# Altium integrated library Integrated_Library1.IntLib: 17 symbols
Pins are listed as number, name and electrical type; pins without a type are passive.

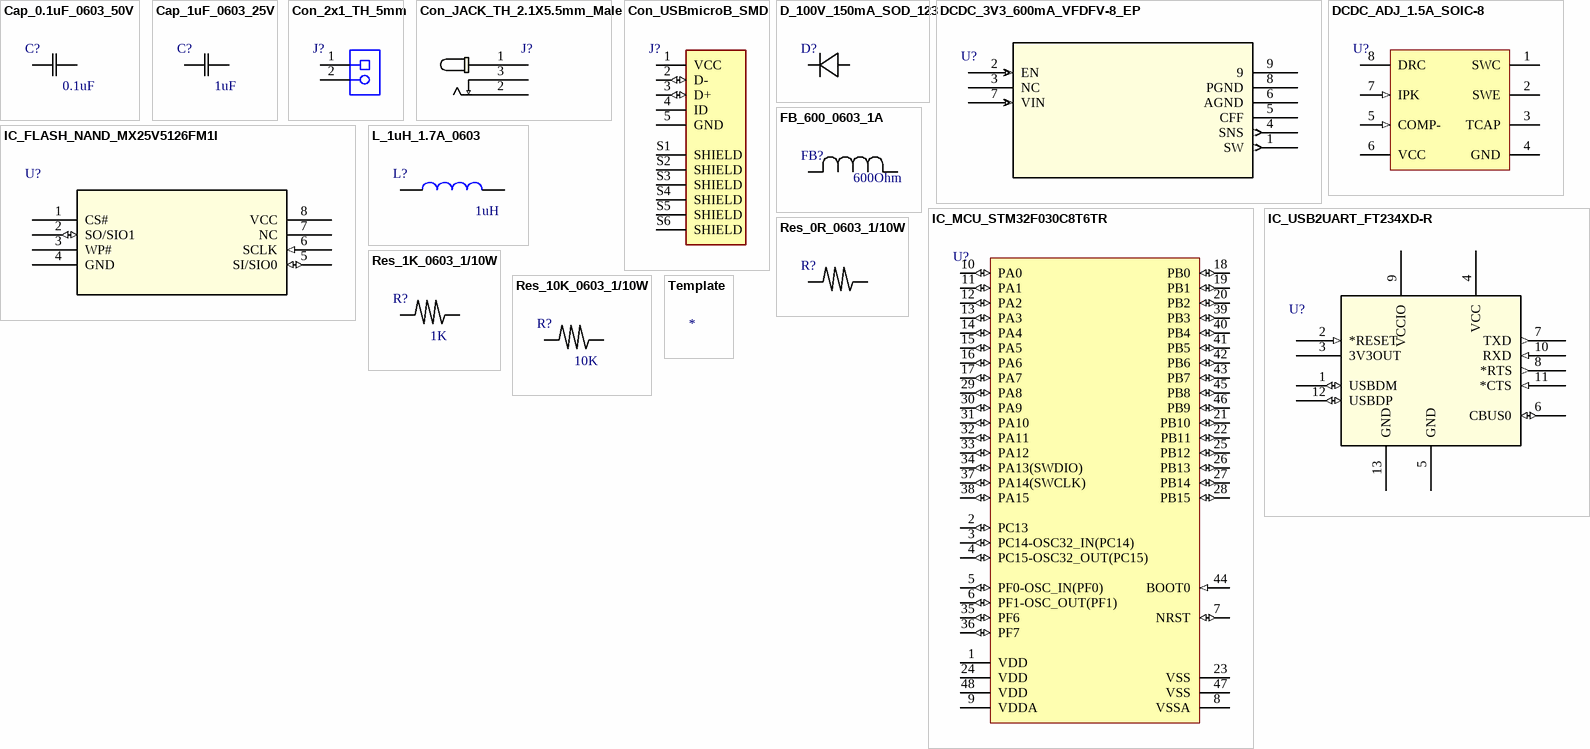
[diagram p0: symbols Cap_0.1uF_0603_50V to Template]

## Cap_0.1uF_0603_50V
designator C?, comment value 0.1uF  (hidden comment: CL10B104KB8NNNC)
CAP CER 0.1UF 50V X7R 0603; Manufacturer: Samsung Electro-Mechanics; Manufacturer Part Number: CL10B104KB8NNNC; Supplier 1: Digi-Key; Supplier Part Number 1: 1276-1000-1-ND; ComponentLink1Description: Digi-Key; ComponentLink1URL: https://www.digikey.com/en/products/detail/samsung-electro-mechanics/CL10B104KB8NNNC/3886658
footprint 0603_manual (1608 (metric) / 20231125 / Gustavo_Pisso)
pins: 1, 2

## Cap_1uF_0603_25V
designator C?, comment value 1uF  (hidden comment: CL10A105KA8NNNC)
1 µF ±10% 25V Ceramic Capacitor X5R 0603 (1608 Metric); Manufacturer: Samsung Electro-Mechanics; Manufacturer Part Number: CL10A105KA8NNNC; Supplier 1: Digi-Key; Supplier Part Number 1: 1276-1102-1-ND; ComponentLink1Description: Digi-Key; ComponentLink1URL: https://www.digikey.com/en/products/detail/samsung-electro-mechanics/CL10A105KA8NNNC/3886760
footprint 0603_manual (1608 (metric) / 20231125 / Gustavo_Pisso)
pins: 1, 2

## Con_2x1_TH_5mm
designator J?, comment 282836-2  (value not drawn)
TERM BLK 2POS SIDE ENTRY 5MM PCB; Manufacturer: TE Connectivity AMP Connectors; Manufacturer Part Number: 282836-2; Supplier 1: Digi-Key; Supplier Part Number 1: A98076-ND; Value: *; ComponentLink1Description: Digi-Key; ComponentLink1URL: https://www.digikey.com/en/products/detail/te-connectivity-amp-connectors/282836-2/1826939
footprint CON_2x1_th_5MM
pins: 1, 2

## Con_JACK_TH_2.1X5.5mm_Male
designator J?, comment PJ-002A  (value not drawn)
CONN PWR JACK 2X5.5MM SOLDER; Manufacturer: CUI Devices; Manufacturer Part Number: PJ-002A; Supplier 1: Digi-Key; Supplier Part Number 1: CP-002A-ND; Value: *; ComponentLink1Description: Digi-Key; ComponentLink1URL: https://www.digikey.com/en/products/detail/cui-inc/PJ-002A/96962
footprint Con_JACK_TH_2.1X5.5mm_MALE (20231203 / GustavoPisso)
pins: 1, 2, 3

## Con_USBmicroB_SMD
designator J?, comment 10118192-0002LF  (value not drawn)
CONN RCPT USB2.0 MICRO B SMD R/A; Manufacturer: Amphenol ICC (FCI); Manufacturer Part Number: 10118192-0002LF; Supplier 1: Digi-Key; Supplier Part Number 1: 609-5379-1-ND; Value: *; ComponentLink1Description: Digi-Key; ComponentLink1URL: https://www.digikey.com/en/products/detail/amphenol-cs-fci/10118192-0002LF/6817756
footprint CON_USBmicroB_SMD (20231212 / GustavoPisso)
pins: 1 VCC (power), 2 D- (io), 3 D+ (io), 4 ID (power), 5 GND (power), S1 SHIELD, S2 SHIELD, S3 SHIELD, S4 SHIELD, S5 SHIELD, S6 SHIELD

## D_100V_150mA_SOD_123
designator D?, comment 1N4148W-TP  (value not drawn)
SOD-123 / 20231125 / GustavoPisso; Manufacturer: Micro Commercial Co; Manufacturer Part Number: 1N4148W-TP; Supplier 1: Digi-Key; Supplier Part Number 1: 1N4148WTPMSCT-ND; Value: *; ComponentLink1Description: Digi-Key; ComponentLink1URL: https://www.digikey.com/en/products/detail/micro-commercial-co/1N4148W-TP/717196
footprint SOD_123 (SOD-123 / 20231125 / GustavoPisso)
pins: 1, 2

## DCDC_3V3_600mA_VFDFV-8_EP
designator U?, comment MIC23050-SYML-TR  (value not drawn)
IC REG BUCK 3.3V 600MA 8MLF; Manufacturer: Microchip Technology; Manufacturer Part Number: MIC23050-SYML-TR; Supplier 1: Digi-Key; Supplier Part Number 1: 576-3351-1-ND; Value: *; ComponentLink1Description: Digi-Key; ComponentLink1URL: https://www.digikey.com/en/products/detail/microchip-technology/MIC23050-SYML-TR/1980888
footprint VFDFN_8_EP (MLF8 (2X2) / 20231203 / GustavoPisso)
pins: 1 SW (out), 2 EN (in), 3 NC, 4 SNS (out), 5 CFF, 6 AGND (power), 7 VIN (in), 8 PGND (power), 9

## DCDC_ADJ_1.5A_SOIC-8
designator U?, comment MC33063ADR  (value not drawn)
IC REG BUCK BST ADJ 1.5A 8SOIC; Manufacturer: Texas Instruments; Manufacturer Part Number: MC33063ADR; Supplier 1: Digi-Key; Supplier Part Number 1: 296-17763-1-ND; Value: *; ComponentLink1Description: Digi-Key; ComponentLink1URL: https://www.digikey.com/en/products/detail/texas-instruments/MC33063ADR/717429
footprint SOIC_8_3.9mm (SOIC-8 / 20231125 / GustavoPisso)
pins: 1 SWC (oc), 2 SWE (oe), 3 TCAP, 4 GND (power), 5 COMP- (in), 6 VCC (power), 7 IPK (in), 8 DRC (oc)

## FB_600_0603_1A
designator FB?, comment value 600Ohm  (hidden comment: MI0603J601R-10)
FERRITE BEAD 600 OHM 0603 1LN; Manufacturer: Laird-Signal Integrity Products; Manufacturer Part Number: Laird-Signal Integrity Products; Supplier 1: Digi-Key; Supplier Part Number 1: 240-2371-1-ND; ComponentLink1Description: Digi-Key; ComponentLink1URL: https://www.digikey.com/en/products/detail/laird-signal-integrity-products/MI0603J601R-10/806610
footprint 0603_manual (1608 (metric) / 20231125 / Gustavo_Pisso)
pins: 1, 2

## IC_FLASH_NAND_MX25V5126FM1I
designator U?, comment MX25V5126FM1I  (value not drawn)
IC FLASH 512KBIT SPI/DUAL 8SOP; Manufacturer: Macronix; Manufacturer Part Number: MX25V5126FM1I; Supplier 1: Digi-Key; Supplier Part Number 1: 1092-MX25V5126FM1I-ND; Value: *; ComponentLink1Description: Digi-Key; ComponentLink1URL: https://www.digikey.com/en/products/detail/macronix/MX25V5126FM1I/11560963
footprint SOP_8_3.9mm (8-SOIC (0.154", 3.90mm Width))
pins: 1 CS#, 2 SO/SIO1 (io), 3 WP#, 4 GND (power), 5 SI/SIO0 (io), 6 SCLK (in), 7 NC, 8 VCC (power)

## IC_MCU_STM32F030C8T6TR
designator U?, comment STM32F030C8T6TR  (value not drawn)
IC MCU 32BIT 64KB FLASH 48LQFP; Manufacturer: STMicroelectronics; Manufacturer Part Number: STM32F030C8T6TR; Supplier 1: Digi-Key; Supplier Part Number 1: 497-17331-1-ND; Value: *; ComponentLink1Description: Digi-Key; ComponentLink1URL: https://www.digikey.com/en/products/detail/stmicroelectronics/STM32F030C8T6TR/5051255
footprint LQFP_48 (LQFP_48 (7x7) / 20231215 / GustavoPisso)
pins: 1 VDD (power) "Complementary power supply", 2 PC13 (io) "PC13/RTC_TAMP1,RTC_TS,RTC_OUT,WKUP2", 3 PC14-OSC32_IN(PC14) (io) "PC14-OSC32_IN(PC14)/OSC32_IN", 4 PC15-OSC32_OUT(PC15) (io) "PC15-OSC32_OUT(PC15)/OSC32_OUT", 5 PF0-OSC_IN(PF0) (io) "PF0-OSC_IN(PF0)/I2C1_SDA/OSC_IN", 6 PF1-OSC_OUT(PF1) (io) "PF1-OSC_OUT(PF1)/I2C1_SCL/OSC_OUT", 7 NRST (io) "Device reset input/internal reset output(active low)", 8 VSSA (power) "Analog ground", 9 VDDA (power) "Analog power supply", 10 PA0 (io) "PA0/USART2_CTS,USART4_TX/ADC_IN0,RTC_TAMP2,WKUP1", 11 PA1 (io) "PA1/USART2_RTS,EVENTOUT,USART4_RX/ADC_IN1", 12 PA2 (io) "PA2/USART2_TX,TIM15_CH1/ADC_IN2", 13 PA3 (io) "PA3/USART2_RX,TIM15_CH2/ADC_IN3", 14 PA4 (io) "PA4/SPI1_NSS,USART2_CK,TIM14_CH1,USART6_TX/ADC_IN4", 15 PA5 (io) "PA5/SPI1_SCK,USART6_RX/ADC_IN5", 16 PA6 (io) "PA6/SPI1_MISO,TIM3_CH1,TIM1_BKIN,TIM16_CH1,EVENTOUT,USART3_CTS/ADC_IN6", 17 PA7 (io) "PA7/SPI1_MOSI,TIM3_CH2,TIM14_CH1,TIM1_CH1N,TIM17_CH1,EVENTOUT/ADC_IN7", 18 PB0 (io) "PB0/TIM3_CH3,TIM1_CH2N,EVENTOUT,USART3_CK/ADC_IN8", 19 PB1 (io) "PB1/TIM3_CH4,TIM14_CH1,TIM1_CH3N,USART3_RTS/ADC_IN9", 20 PB2 (io), 21 PB10 (io) "PB10/SPI2_SCK,I2C2_SCL,USART3_TX", 22 PB11 (io) "PB11/I2C2_SDA,EVENTOUT,USART3_RX", 23 VSS (power) "Ground", 24 VDD (power) "Digital power supply", 25 PB12 (io) "PB12/SPI2_NSS,TIM1_BKIN,EVENTOUT,USART3_CK", 26 PB13 (io) "PB13/SPI2_SCK,I2C2_SDA,TIM1_CH1N,USART3_CTS", 27 PB14 (io) "PB14/SPI2_MISO,I2C2_SDA,TIM1_CH2N,TIM15_CH1,USART3_RTS", 28 PB15 (io) "PB15/SPI2_MOSI,TIM1_CH3N,TIM15_CH1N,TIM15_CH2/RTC_REFIN", 29 PA8 (io) "PA8/USART1_CK,TIM1_CH1,EVENTOUT,MCO", 30 PA9 (io) "PA9/USART1_TX,TIM1_CH2,TIM15_BKIN,I2C1_SCL", 31 PA10 (io) "PA10/USART1_RX,TIM1_CH3,TIM17_BKIN,I2C1_SDA", 32 PA11 (io) "PA11/USART1_CTS,TIM1_CH4,EVENTOUT,I2C2_SCL", 33 PA12 (io) "PA12/USART1_RTS,TIM1_ETR,EVENTOUT,I2C2_SDA", 34 PA13(SWDIO) (io) "PA13(SWDIO)/IR_OUT,SWDIO", 35 PF6 (io) "PF6/I2C1_SCL,I2C2_SCL", 36 PF7 (io) "PF7/I2C1_SDA,I2C2_SDA", 37 PA14(SWCLK) (io) "PA14(SWCLK)/USART2_TX,SWCLK", 38 PA15 (io) "PA15/SPI1_NSS,USART2_RX,USART4_RTS,EVENTOUT", 39 PB3 (io) "PB3/SPI1_SCK,EVENTOUT,USART5_TX", 40 PB4 (io) "PB4/SPI1_MISO,TIM3_CH1,EVENTOUT,TIM17_BKIN,USART5_RX", 41 PB5 (io) "PB5/SPI1_MOSI,I2C1_SMBA,TIM16_BKIN,TIM3_CH2,USART5_CK_RTS", 42 PB6 (io) "PB6/I2C1_SCL,USART1_TX,TIM16_CH1N", 43 PB7 (io) "PB7/I2C1_SDA,USART1_RX,TIM17_CH1N,USART4_CTS", 44 BOOT0 (in) "Boot memory selection", 45 PB8 (io) "PB8/I2C1_SCL,TIM16_CH1", 46 PB9 (io) "PB9/I2C1_SDA,IR_OUT,SPI2_NSS,TIM17_CH1,EVENTOUT", 47 VSS (power) "Ground", 48 VDD (power) "Digital power supply"

## IC_USB2UART_FT234XD-R
designator U?, comment FT234XD-R  (value not drawn)
IC USB SERIAL BASIC UART 12DFN; Manufacturer: FTDI, Future Technology Devices International Ltd; Manufacturer Part Number: FT234XD-R; Supplier 1: Digi-Key; Supplier Part Number 1: 768-1178-1-ND; Value: *; ComponentLink1Description: Digi-Key; ComponentLink1URL: https://www.digikey.com/en/products/detail/ftdi-future-technology-devices-international-ltd/FT234XD-R/3904921
footprint VFDFN_12_EP (DFN_12_(3X3) / 20231212 / GustavoPisso)
pins: 1 USBDM (io), 2 *RESET (in), 3 3V3OUT (power), 4 VCC (power), 5 GND (power), 6 CBUS0 (io), 7 TXD (out), 8 *RTS (out), 9 VCCIO (power), 10 RXD (in), 11 *CTS (in), 12 USBDP (io), 13 GND (power)

## L_1uH_1.7A_0603
designator L?, comment value 1uH  (hidden comment: DFE18SAN1R0MG0L)
FIXED IND 1UH 1.7A 128 MOHM SMD; Manufacturer: Murata Electronics; Manufacturer Part Number: DFE18SAN1R0MG0L; Supplier 1: Digi-Key; Supplier Part Number 1: 490-16577-1-ND; ComponentLink1Description: Digi-Key; ComponentLink1URL: https://www.digikey.com/en/products/detail/murata-electronics/DFE18SAN1R0MG0L/7564142
footprint 0603_manual (1608 (metric) / 20231125 / Gustavo_Pisso)
pins: 1, 2

## Res_0R_0603_1/10W
designator R?, comment RMCF0603ZT0R00  (value not drawn)
RES 0 OHM JUMPER 1/10W 0603; Manufacturer: Stackpole Electronics Inc; Manufacturer Part Number: RMCF0603ZT0R00; Supplier 1: Digi-Key; Supplier Part Number 1: RMCF0603ZT0R00CT-ND; Titoma stock: *; ComponentLink1Description: Digi-Key; ComponentLink1URL: https://www.digikey.com/en/products/detail/stackpole-electronics-inc/RMCF0603ZT0R00/1756908
footprint 0603_manual (1608 (metric) / 20231125 / Gustavo_Pisso)
pins: 1, 2

## Res_1K_0603_1/10W
designator R?, comment value 1K  (hidden comment: RMCF0603FT1K00)
RES 1K OHM 1% 1/10W 0603; Manufacturer: Stackpole Electronics Inc; Manufacturer Part Number: RMCF0603FT1K00; Supplier 1: Digi-Key; Supplier Part Number 1: RMCF0603FT1K00CT-ND; ComponentLink1Description: Digi-Key; ComponentLink1URL: https://www.digikey.com/en/products/detail/stackpole-electronics-inc/RMCF0603FT1K00/1761077
footprint 0603_manual (1608 (metric) / 20231125 / Gustavo_Pisso)
pins: 1, 2

## Res_10K_0603_1/10W
designator R?, comment value 10K  (hidden comment: RMCF0603FT10K0)
RES 10K OHM 1% 1/10W 0603; Manufacturer: Stackpole Electronics Inc; Manufacturer Part Number: RMCF0603FT10K0; Supplier 1: Digi-Key; Supplier Part Number 1: RMCF0603FT10K0CT-ND; ComponentLink1Description: Digi-Key; ComponentLink1URL: https://www.digikey.com/en/products/detail/stackpole-electronics-inc/RMCF0603FT10K0/1761235
footprint 0603_manual (1608 (metric) / 20231125 / Gustavo_Pisso)
pins: 1, 2

## Template
designator *  (value not drawn)
Manufacturer: *; Manufacturer Part Number: *; Supplier 1: Digi-Key; Supplier Part Number 1: *; Value: *; ComponentLink1Description: Digi-Key; ComponentLink1URL: *